# Altium schematic symbol library WCAP-AIE8.SchLib: 31 symbols
Pins are listed as number, name and electrical type; pins without a type are passive.

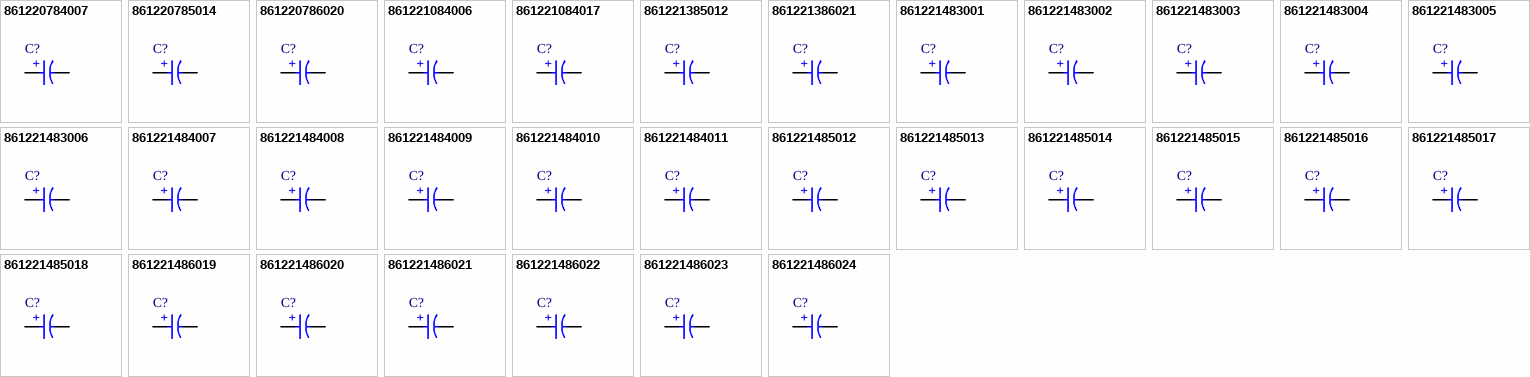
[diagram p0: symbols 861220784007 to 861221486024]

## 861220784007
designator C?, comment 3300uF  (value not drawn)
WCAP-AIE8 Aluminum Electrolytic Capacitor, Snap-In, THT, 25mm x 30mm, 3300uF, 63V; Manufacturer Part Number: 861220784007; Manufacturer: Wurth Elektronik; Dissipation Factor: 20%; Endurance: 3000h; Leakage Current: 1367.9uA; Ripple Current: 2740mA; Category: Aluminum Electrolytic Capacitors; Match Code: WCAP-AIE8; ComponentLink1Description: Website Link; ComponentLink1URL: https://www.we-online.com/redexpert/article/861220784007?ad; ComponentLink2Description: Datasheet Link; ComponentLink2URL: https://www.we-online.com/redexpert/spec/861220784007?ad; Mount: Through Hole; Min Operating Temperature: -40°C; Max Operating Temperature: 85°C; Packaging: Tray; Height: 30mm; Diameter: 25mm; Lead Pitch: 10mm; Capacitance: 3300uF; Rated Voltage (DC): 63V
footprint WCAP-AIE8_D25H30
simulation model 861220784007_3.3mF
pins: 1 P, 2 N
text: +

## 861220785014
designator C?, comment 4700uF  (value not drawn)
WCAP-AIE8 Aluminum Electrolytic Capacitor, Snap-In, THT, 30mm x 30mm, 4700uF, 63V; Manufacturer Part Number: 861220785014; Manufacturer: Wurth Elektronik; Dissipation Factor: 30%; Endurance: 3000h; Leakage Current: 1632.5uA; Ripple Current: 3700mA; Category: Aluminum Electrolytic Capacitors; Match Code: WCAP-AIE8; ComponentLink1Description: Website Link; ComponentLink1URL: https://www.we-online.com/redexpert/article/861220785014?ad; ComponentLink2Description: Datasheet Link; ComponentLink2URL: https://www.we-online.com/redexpert/spec/861220785014?ad; Mount: Through Hole; Min Operating Temperature: -40°C; Max Operating Temperature: 85°C; Packaging: Tray; Height: 30mm; Diameter: 30mm; Lead Pitch: 10mm; Capacitance: 4700uF; Rated Voltage (DC): 63V
footprint WCAP-AIE8_D30H30
simulation model 861220785014_4.7mF
pins: 1 P, 2 N
text: +

## 861220786020
designator C?, comment 6800uF  (value not drawn)
WCAP-AIE8 Aluminum Electrolytic Capacitor, Snap-In, THT, 35mm x 30mm, 6800uF, 63V; Manufacturer Part Number: 861220786020; Manufacturer: Wurth Elektronik; Dissipation Factor: 30%; Endurance: 3000h; Leakage Current: 1963.6uA; Ripple Current: 4950mA; Category: Aluminum Electrolytic Capacitors; Match Code: WCAP-AIE8; ComponentLink1Description: Website Link; ComponentLink1URL: https://www.we-online.com/redexpert/article/861220786020?ad; ComponentLink2Description: Datasheet Link; ComponentLink2URL: https://www.we-online.com/redexpert/spec/861220786020?ad; Mount: Through Hole; Min Operating Temperature: -40°C; Max Operating Temperature: 85°C; Packaging: Tray; Height: 30mm; Diameter: 35mm; Lead Pitch: 10mm; Capacitance: 6800uF; Rated Voltage (DC): 63V
footprint WCAP-AIE8_D35H30
simulation model 861220786020_6.8mF
pins: 1 P, 2 N
text: +

## 861221084006
designator C?, comment 470uF  (value not drawn)
WCAP-AIE8 Aluminum Electrolytic Capacitor, Snap-In, THT, 25mm x 25mm, 470uF, 200V; Manufacturer Part Number: 861221084006; Manufacturer: Wurth Elektronik; Dissipation Factor: 15%; Endurance: 3000h; Leakage Current: 919.8uA; Ripple Current: 1990mA; Category: Aluminum Electrolytic Capacitors; Match Code: WCAP-AIE8; ComponentLink1Description: Website Link; ComponentLink1URL: https://www.we-online.com/redexpert/article/861221084006?ad; ComponentLink2Description: Datasheet Link; ComponentLink2URL: https://www.we-online.com/redexpert/spec/861221084006?ad; Mount: Through Hole; Min Operating Temperature: -25°C; Max Operating Temperature: 85°C; Packaging: Tray; Height: 25mm; Diameter: 25mm; Lead Pitch: 10mm; Capacitance: 470uF; Rated Voltage (DC): 200V
footprint WCAP-AIE8_D25H25
simulation model 861221084006_0.47mF
pins: 1 P, 2 N
text: +

## 861221084017
designator C?, comment 1000uF  (value not drawn)
WCAP-AIE8 Aluminum Electrolytic Capacitor, Snap-In, THT, 25mm x 40mm, 1000uF, 200V; Manufacturer Part Number: 861221084017; Manufacturer: Wurth Elektronik; Dissipation Factor: 15%; Endurance: 3000h; Leakage Current: 1341.7uA; Ripple Current: 3280mA; Category: Aluminum Electrolytic Capacitors; Match Code: WCAP-AIE8; ComponentLink1Description: Website Link; ComponentLink1URL: https://www.we-online.com/redexpert/article/861221084017?ad; ComponentLink2Description: Datasheet Link; ComponentLink2URL: https://www.we-online.com/redexpert/spec/861221084017?ad; Mount: Through Hole; Min Operating Temperature: -25°C; Max Operating Temperature: 85°C; Packaging: Tray; Height: 40mm; Diameter: 25mm; Lead Pitch: 10mm; Capacitance: 1000uF; Rated Voltage (DC): 200V
footprint WCAP-AIE8_D25H40
simulation model 861221084017_1mF
pins: 1 P, 2 N
text: +

## 861221385012
designator C?, comment 220uF  (value not drawn)
WCAP-AIE8 Aluminum Electrolytic Capacitor, Snap-In, THT, 30mm x 30mm, 220uF, 400V; Manufacturer Part Number: 861221385012; Manufacturer: Wurth Elektronik; Dissipation Factor: 20%; Endurance: 3000h; Leakage Current: 890uA; Ripple Current: 1660mA; Category: Aluminum Electrolytic Capacitors; Match Code: WCAP-AIE8; ComponentLink1Description: Website Link; ComponentLink1URL: https://www.we-online.com/redexpert/article/861221385012?ad; ComponentLink2Description: Datasheet Link; ComponentLink2URL: https://www.we-online.com/redexpert/spec/861221385012?ad; Mount: Through Hole; Min Operating Temperature: -25°C; Max Operating Temperature: 85°C; Packaging: Tray; Height: 30mm; Diameter: 30mm; Lead Pitch: 10mm; Capacitance: 220uF; Rated Voltage (DC): 400V
footprint WCAP-AIE8_D30H30
simulation model 861221385012_0.22mF
pins: 1 P, 2 N
text: +

## 861221386021
designator C?, comment 470uF  (value not drawn)
WCAP-AIE8 Aluminum Electrolytic Capacitor, Snap-In, THT, 35mm x 35mm, 470uF, 400V; Manufacturer Part Number: 861221386021; Manufacturer: Wurth Elektronik; Dissipation Factor: 20%; Endurance: 3000h; Leakage Current: 1300.8uA; Ripple Current: 2710mA; Category: Aluminum Electrolytic Capacitors; Match Code: WCAP-AIE8; ComponentLink1Description: Website Link; ComponentLink1URL: https://www.we-online.com/redexpert/article/861221386021?ad; ComponentLink2Description: Datasheet Link; ComponentLink2URL: https://www.we-online.com/redexpert/spec/861221386021?ad; Mount: Through Hole; Min Operating Temperature: -25°C; Max Operating Temperature: 85°C; Packaging: Tray; Height: 35mm; Diameter: 35mm; Lead Pitch: 10mm; Capacitance: 470uF; Rated Voltage (DC): 400V
footprint WCAP-AIE8_D35H35
simulation model 861221386021_0.47mF
pins: 1 P, 2 N
text: +

## 861221483001
designator C?, comment 68uF  (value not drawn)
WCAP-AIE8 Aluminum Electrolytic Capacitor, Snap-In, THT, 22mm x 25mm, 68uF, 450V; Manufacturer Part Number: 861221483001; Manufacturer: Wurth Elektronik; Dissipation Factor: 20%; Endurance: 3000h; Leakage Current: 524.8uA; Ripple Current: 710mA; Category: Aluminum Electrolytic Capacitors; Match Code: WCAP-AIE8; ComponentLink1Description: Website Link; ComponentLink1URL: https://www.we-online.com/redexpert/article/861221483001?ad; ComponentLink2Description: Datasheet Link; ComponentLink2URL: https://www.we-online.com/redexpert/spec/861221483001?ad; Mount: Through Hole; Min Operating Temperature: -25°C; Max Operating Temperature: 85°C; Packaging: Tray; Height: 25mm; Diameter: 22mm; Lead Pitch: 10mm; Capacitance: 68uF; Rated Voltage (DC): 450V
footprint WCAP-AIE8_D22H25
simulation model 861221483001_68uF
pins: 1 P, 2 N
text: +

## 861221483002
designator C?, comment 82uF  (value not drawn)
WCAP-AIE8 Aluminum Electrolytic Capacitor, Snap-In, THT, 22mm x 25mm, 82uF, 450V; Manufacturer Part Number: 861221483002; Manufacturer: Wurth Elektronik; Dissipation Factor: 20%; Endurance: 3000h; Leakage Current: 576.3uA; Ripple Current: 860mA; Category: Aluminum Electrolytic Capacitors; Match Code: WCAP-AIE8; ComponentLink1Description: Website Link; ComponentLink1URL: https://www.we-online.com/redexpert/article/861221483002?ad; ComponentLink2Description: Datasheet Link; ComponentLink2URL: https://www.we-online.com/redexpert/spec/861221483002?ad; Mount: Through Hole; Min Operating Temperature: -25°C; Max Operating Temperature: 85°C; Packaging: Tray; Height: 25mm; Diameter: 22mm; Lead Pitch: 10mm; Capacitance: 82uF; Rated Voltage (DC): 450V
footprint WCAP-AIE8_D22H25
simulation model 861221483002_82uF
pins: 1 P, 2 N
text: +

## 861221483003
designator C?, comment 100uF  (value not drawn)
WCAP-AIE8 Aluminum Electrolytic Capacitor, Snap-In, THT, 22mm x 30mm, 100uF, 450V; Manufacturer Part Number: 861221483003; Manufacturer: Wurth Elektronik; Dissipation Factor: 20%; Endurance: 3000h; Leakage Current: 636.4uA; Ripple Current: 950mA; Category: Aluminum Electrolytic Capacitors; Match Code: WCAP-AIE8; ComponentLink1Description: Website Link; ComponentLink1URL: https://www.we-online.com/redexpert/article/861221483003?ad; ComponentLink2Description: Datasheet Link; ComponentLink2URL: https://www.we-online.com/redexpert/spec/861221483003?ad; Mount: Through Hole; Min Operating Temperature: -25°C; Max Operating Temperature: 85°C; Packaging: Tray; Height: 30mm; Diameter: 22mm; Lead Pitch: 10mm; Capacitance: 100uF; Rated Voltage (DC): 450V
footprint WCAP-AIE8_D22H30
simulation model 861221483003_0.1mF
pins: 1 P, 2 N
text: +

## 861221483004
designator C?, comment 120uF  (value not drawn)
WCAP-AIE8 Aluminum Electrolytic Capacitor, Snap-In, THT, 22mm x 35mm, 120uF, 450V; Manufacturer Part Number: 861221483004; Manufacturer: Wurth Elektronik; Dissipation Factor: 20%; Endurance: 3000h; Leakage Current: 697.2uA; Ripple Current: 1140mA; Category: Aluminum Electrolytic Capacitors; Match Code: WCAP-AIE8; ComponentLink1Description: Website Link; ComponentLink1URL: https://www.we-online.com/redexpert/article/861221483004?ad; ComponentLink2Description: Datasheet Link; ComponentLink2URL: https://www.we-online.com/redexpert/spec/861221483004?ad; Mount: Through Hole; Min Operating Temperature: -25°C; Max Operating Temperature: 85°C; Packaging: Tray; Height: 35mm; Diameter: 22mm; Lead Pitch: 10mm; Capacitance: 120uF; Rated Voltage (DC): 450V
footprint WCAP-AIE8_D22H35
simulation model 861221483004_0.12mF
pins: 1 P, 2 N
text: +

## 861221483005
designator C?, comment 150uF  (value not drawn)
WCAP-AIE8 Aluminum Electrolytic Capacitor, Snap-In, THT, 22mm x 40mm, 150uF, 450V; Manufacturer Part Number: 861221483005; Manufacturer: Wurth Elektronik; Dissipation Factor: 20%; Endurance: 3000h; Leakage Current: 779.5uA; Ripple Current: 1380mA; Category: Aluminum Electrolytic Capacitors; Match Code: WCAP-AIE8; ComponentLink1Description: Website Link; ComponentLink1URL: https://www.we-online.com/redexpert/article/861221483005?ad; ComponentLink2Description: Datasheet Link; ComponentLink2URL: https://www.we-online.com/redexpert/spec/861221483005?ad; Mount: Through Hole; Min Operating Temperature: -25°C; Max Operating Temperature: 85°C; Packaging: Tray; Height: 40mm; Diameter: 22mm; Lead Pitch: 10mm; Capacitance: 150uF; Rated Voltage (DC): 450V
footprint WCAP-AIE8_D22H40
simulation model 861221483005_0.15mF
pins: 1 P, 2 N
text: +

## 861221483006
designator C?, comment 180uF  (value not drawn)
WCAP-AIE8 Aluminum Electrolytic Capacitor, Snap-In, THT, 22mm x 45mm, 180uF, 450V; Manufacturer Part Number: 861221483006; Manufacturer: Wurth Elektronik; Dissipation Factor: 20%; Endurance: 3000h; Leakage Current: 853.9uA; Ripple Current: 1560mA; Category: Aluminum Electrolytic Capacitors; Match Code: WCAP-AIE8; ComponentLink1Description: Website Link; ComponentLink1URL: https://www.we-online.com/redexpert/article/861221483006?ad; ComponentLink2Description: Datasheet Link; ComponentLink2URL: https://www.we-online.com/redexpert/spec/861221483006?ad; Mount: Through Hole; Min Operating Temperature: -25°C; Max Operating Temperature: 85°C; Packaging: Tray; Height: 45mm; Diameter: 22mm; Lead Pitch: 10mm; Capacitance: 180uF; Rated Voltage (DC): 450V
footprint WCAP-AIE8_D22H45
simulation model 861221483006_0.18mF
pins: 1 P, 2 N
text: +

## 861221484007
designator C?, comment 100uF  (value not drawn)
WCAP-AIE8 Aluminum Electrolytic Capacitor, Snap-In, THT, 25mm x 25mm, 100uF, 450V; Manufacturer Part Number: 861221484007; Manufacturer: Wurth Elektronik; Dissipation Factor: 20%; Endurance: 3000h; Leakage Current: 636.4uA; Ripple Current: 970mA; Category: Aluminum Electrolytic Capacitors; Match Code: WCAP-AIE8; ComponentLink1Description: Website Link; ComponentLink1URL: https://www.we-online.com/redexpert/article/861221484007?ad; ComponentLink2Description: Datasheet Link; ComponentLink2URL: https://www.we-online.com/redexpert/spec/861221484007?ad; Mount: Through Hole; Min Operating Temperature: -25°C; Max Operating Temperature: 85°C; Packaging: Tray; Height: 25mm; Diameter: 25mm; Lead Pitch: 10mm; Capacitance: 100uF; Rated Voltage (DC): 450V
footprint WCAP-AIE8_D25H25
simulation model 861221484007_0.1mF
pins: 1 P, 2 N
text: +

## 861221484008
designator C?, comment 120uF  (value not drawn)
WCAP-AIE8 Aluminum Electrolytic Capacitor, Snap-In, THT, 25mm x 30mm, 120uF, 450V; Manufacturer Part Number: 861221484008; Manufacturer: Wurth Elektronik; Dissipation Factor: 20%; Endurance: 3000h; Leakage Current: 697.2uA; Ripple Current: 1170mA; Category: Aluminum Electrolytic Capacitors; Match Code: WCAP-AIE8; ComponentLink1Description: Website Link; ComponentLink1URL: https://www.we-online.com/redexpert/article/861221484008?ad; ComponentLink2Description: Datasheet Link; ComponentLink2URL: https://www.we-online.com/redexpert/spec/861221484008?ad; Mount: Through Hole; Min Operating Temperature: -25°C; Max Operating Temperature: 85°C; Packaging: Tray; Height: 30mm; Diameter: 25mm; Lead Pitch: 10mm; Capacitance: 120uF; Rated Voltage (DC): 450V
footprint WCAP-AIE8_D25H30
simulation model 861221484008_0.12mF
pins: 1 P, 2 N
text: +

## 861221484009
designator C?, comment 150uF  (value not drawn)
WCAP-AIE8 Aluminum Electrolytic Capacitor, Snap-In, THT, 25mm x 30mm, 150uF, 450V; Manufacturer Part Number: 861221484009; Manufacturer: Wurth Elektronik; Dissipation Factor: 20%; Endurance: 3000h; Leakage Current: 779.5uA; Ripple Current: 1310mA; Category: Aluminum Electrolytic Capacitors; Match Code: WCAP-AIE8; ComponentLink1Description: Website Link; ComponentLink1URL: https://www.we-online.com/redexpert/article/861221484009?ad; ComponentLink2Description: Datasheet Link; ComponentLink2URL: https://www.we-online.com/redexpert/spec/861221484009?ad; Mount: Through Hole; Min Operating Temperature: -25°C; Max Operating Temperature: 85°C; Packaging: Tray; Height: 30mm; Diameter: 25mm; Lead Pitch: 10mm; Capacitance: 150uF; Rated Voltage (DC): 450V
footprint WCAP-AIE8_D25H30
simulation model 861221484009_0.15mF
pins: 1 P, 2 N
text: +

## 861221484010
designator C?, comment 180uF  (value not drawn)
WCAP-AIE8 Aluminum Electrolytic Capacitor, Snap-In, THT, 25mm x 35mm, 180uF, 450V; Manufacturer Part Number: 861221484010; Manufacturer: Wurth Elektronik; Dissipation Factor: 20%; Endurance: 3000h; Leakage Current: 853.9uA; Ripple Current: 1510mA; Category: Aluminum Electrolytic Capacitors; Match Code: WCAP-AIE8; ComponentLink1Description: Website Link; ComponentLink1URL: https://www.we-online.com/redexpert/article/861221484010?ad; ComponentLink2Description: Datasheet Link; ComponentLink2URL: https://www.we-online.com/redexpert/spec/861221484010?ad; Mount: Through Hole; Min Operating Temperature: -25°C; Max Operating Temperature: 85°C; Packaging: Tray; Height: 35mm; Diameter: 25mm; Lead Pitch: 10mm; Capacitance: 180uF; Rated Voltage (DC): 450V
footprint WCAP-AIE8_D25H35
simulation model 861221484010_0.18mF
pins: 1 P, 2 N
text: +

## 861221484011
designator C?, comment 220uF  (value not drawn)
WCAP-AIE8 Aluminum Electrolytic Capacitor, Snap-In, THT, 25mm x 40mm, 220uF, 450V; Manufacturer Part Number: 861221484011; Manufacturer: Wurth Elektronik; Dissipation Factor: 20%; Endurance: 3000h; Leakage Current: 944uA; Ripple Current: 2020mA; Category: Aluminum Electrolytic Capacitors; Match Code: WCAP-AIE8; ComponentLink1Description: Website Link; ComponentLink1URL: https://www.we-online.com/redexpert/article/861221484011?ad; ComponentLink2Description: Datasheet Link; ComponentLink2URL: https://www.we-online.com/redexpert/spec/861221484011?ad; Mount: Through Hole; Min Operating Temperature: -25°C; Max Operating Temperature: 85°C; Packaging: Tray; Height: 40mm; Diameter: 25mm; Lead Pitch: 10mm; Capacitance: 220uF; Rated Voltage (DC): 450V
footprint WCAP-AIE8_D25H40
simulation model 861221484011_0.22mF
pins: 1 P, 2 N
text: +

## 861221485012
designator C?, comment 120uF  (value not drawn)
WCAP-AIE8 Aluminum Electrolytic Capacitor, Snap-In, THT, 30mm x 25mm, 120uF, 450V; Manufacturer Part Number: 861221485012; Manufacturer: Wurth Elektronik; Dissipation Factor: 20%; Endurance: 3000h; Leakage Current: 697.2uA; Ripple Current: 1210mA; Category: Aluminum Electrolytic Capacitors; Match Code: WCAP-AIE8; ComponentLink1Description: Website Link; ComponentLink1URL: https://www.we-online.com/redexpert/article/861221485012?ad; ComponentLink2Description: Datasheet Link; ComponentLink2URL: https://www.we-online.com/redexpert/spec/861221485012?ad; Mount: Through Hole; Min Operating Temperature: -25°C; Max Operating Temperature: 85°C; Packaging: Tray; Height: 25mm; Diameter: 30mm; Lead Pitch: 10mm; Capacitance: 120uF; Rated Voltage (DC): 450V
footprint WCAP-AIE8_D30H25
simulation model 861221485012_0.12mF
pins: 1 P, 2 N
text: +

## 861221485013
designator C?, comment 150uF  (value not drawn)
WCAP-AIE8 Aluminum Electrolytic Capacitor, Snap-In, THT, 30mm x 25mm, 150uF, 450V; Manufacturer Part Number: 861221485013; Manufacturer: Wurth Elektronik; Dissipation Factor: 20%; Endurance: 3000h; Leakage Current: 779.5uA; Ripple Current: 1340mA; Category: Aluminum Electrolytic Capacitors; Match Code: WCAP-AIE8; ComponentLink1Description: Website Link; ComponentLink1URL: https://www.we-online.com/redexpert/article/861221485013?ad; ComponentLink2Description: Datasheet Link; ComponentLink2URL: https://www.we-online.com/redexpert/spec/861221485013?ad; Mount: Through Hole; Min Operating Temperature: -25°C; Max Operating Temperature: 85°C; Packaging: Tray; Height: 25mm; Diameter: 30mm; Lead Pitch: 10mm; Capacitance: 150uF; Rated Voltage (DC): 450V
footprint WCAP-AIE8_D30H25
simulation model 861221485013_0.15mF
pins: 1 P, 2 N
text: +

## 861221485014
designator C?, comment 180uF  (value not drawn)
WCAP-AIE8 Aluminum Electrolytic Capacitor, Snap-In, THT, 30mm x 30mm, 180uF, 450V; Manufacturer Part Number: 861221485014; Manufacturer: Wurth Elektronik; Dissipation Factor: 20%; Endurance: 3000h; Leakage Current: 853.9uA; Ripple Current: 1450mA; Category: Aluminum Electrolytic Capacitors; Match Code: WCAP-AIE8; ComponentLink1Description: Website Link; ComponentLink1URL: https://www.we-online.com/redexpert/article/861221485014?ad; ComponentLink2Description: Datasheet Link; ComponentLink2URL: https://www.we-online.com/redexpert/spec/861221485014?ad; Mount: Through Hole; Min Operating Temperature: -25°C; Max Operating Temperature: 85°C; Packaging: Tray; Height: 30mm; Diameter: 30mm; Lead Pitch: 10mm; Capacitance: 180uF; Rated Voltage (DC): 450V
footprint WCAP-AIE8_D30H30
simulation model 861221485014_0.18mF
pins: 1 P, 2 N
text: +

## 861221485015
designator C?, comment 220uF  (value not drawn)
WCAP-AIE8 Aluminum Electrolytic Capacitor, Snap-In, THT, 30mm x 30mm, 220uF, 450V; Manufacturer Part Number: 861221485015; Manufacturer: Wurth Elektronik; Dissipation Factor: 20%; Endurance: 3000h; Leakage Current: 944uA; Ripple Current: 1910mA; Category: Aluminum Electrolytic Capacitors; Match Code: WCAP-AIE8; ComponentLink1Description: Website Link; ComponentLink1URL: https://www.we-online.com/redexpert/article/861221485015?ad; ComponentLink2Description: Datasheet Link; ComponentLink2URL: https://www.we-online.com/redexpert/spec/861221485015?ad; Mount: Through Hole; Min Operating Temperature: -25°C; Max Operating Temperature: 85°C; Packaging: Tray; Height: 30mm; Diameter: 30mm; Lead Pitch: 10mm; Capacitance: 220uF; Rated Voltage (DC): 450V
footprint WCAP-AIE8_D30H30
simulation model 861221485015_0.22mF
pins: 1 P, 2 N
text: +

## 861221485016
designator C?, comment 270uF  (value not drawn)
WCAP-AIE8 Aluminum Electrolytic Capacitor, Snap-In, THT, 30mm x 35mm, 270uF, 450V; Manufacturer Part Number: 861221485016; Manufacturer: Wurth Elektronik; Dissipation Factor: 20%; Endurance: 3000h; Leakage Current: 1045.8uA; Ripple Current: 2290mA; Category: Aluminum Electrolytic Capacitors; Match Code: WCAP-AIE8; ComponentLink1Description: Website Link; ComponentLink1URL: https://www.we-online.com/redexpert/article/861221485016?ad; ComponentLink2Description: Datasheet Link; ComponentLink2URL: https://www.we-online.com/redexpert/spec/861221485016?ad; Mount: Through Hole; Min Operating Temperature: -25°C; Max Operating Temperature: 85°C; Packaging: Tray; Height: 35mm; Diameter: 30mm; Lead Pitch: 10mm; Capacitance: 270uF; Rated Voltage (DC): 450V
footprint WCAP-AIE8_D30H35
simulation model 861221485016_0.27mF
pins: 1 P, 2 N
text: +

## 861221485017
designator C?, comment 330uF  (value not drawn)
WCAP-AIE8 Aluminum Electrolytic Capacitor, Snap-In, THT, 30mm x 40mm, 330uF, 450V; Manufacturer Part Number: 861221485017; Manufacturer: Wurth Elektronik; Dissipation Factor: 20%; Endurance: 3000h; Leakage Current: 1156.1uA; Ripple Current: 2650mA; Category: Aluminum Electrolytic Capacitors; Match Code: WCAP-AIE8; ComponentLink1Description: Website Link; ComponentLink1URL: https://www.we-online.com/redexpert/article/861221485017?ad; ComponentLink2Description: Datasheet Link; ComponentLink2URL: https://www.we-online.com/redexpert/spec/861221485017?ad; Mount: Through Hole; Min Operating Temperature: -25°C; Max Operating Temperature: 85°C; Packaging: Tray; Height: 40mm; Diameter: 30mm; Lead Pitch: 10mm; Capacitance: 330uF; Rated Voltage (DC): 450V
footprint WCAP-AIE8_D30H40
simulation model 861221485017_0.33mF
pins: 1 P, 2 N
text: +

## 861221485018
designator C?, comment 390uF  (value not drawn)
WCAP-AIE8 Aluminum Electrolytic Capacitor, Snap-In, THT, 30mm x 45mm, 390uF, 450V; Manufacturer Part Number: 861221485018; Manufacturer: Wurth Elektronik; Dissipation Factor: 20%; Endurance: 3000h; Leakage Current: 1256.8uA; Ripple Current: 3030mA; Category: Aluminum Electrolytic Capacitors; Match Code: WCAP-AIE8; ComponentLink1Description: Website Link; ComponentLink1URL: https://www.we-online.com/redexpert/article/861221485018?ad; ComponentLink2Description: Datasheet Link; ComponentLink2URL: https://www.we-online.com/redexpert/spec/861221485018?ad; Mount: Through Hole; Min Operating Temperature: -25°C; Max Operating Temperature: 85°C; Packaging: Tray; Height: 45mm; Diameter: 30mm; Lead Pitch: 10mm; Capacitance: 390uF; Rated Voltage (DC): 450V
footprint WCAP-AIE8_D30H45
simulation model 861221485018_0.39mF
pins: 1 P, 2 N
text: +

## 861221486019
designator C?, comment 220uF  (value not drawn)
WCAP-AIE8 Aluminum Electrolytic Capacitor, Snap-In, THT, 35mm x 25mm, 220uF, 450V; Manufacturer Part Number: 861221486019; Manufacturer: Wurth Elektronik; Dissipation Factor: 20%; Endurance: 3000h; Leakage Current: 944uA; Ripple Current: 1920mA; Category: Aluminum Electrolytic Capacitors; Match Code: WCAP-AIE8; ComponentLink1Description: Website Link; ComponentLink1URL: https://www.we-online.com/redexpert/article/861221486019?ad; ComponentLink2Description: Datasheet Link; ComponentLink2URL: https://www.we-online.com/redexpert/spec/861221486019?ad; Mount: Through Hole; Min Operating Temperature: -25°C; Max Operating Temperature: 85°C; Packaging: Tray; Height: 25mm; Diameter: 35mm; Lead Pitch: 10mm; Capacitance: 220uF; Rated Voltage (DC): 450V
footprint WCAP-AIE8_D35H25
simulation model 861221486019_0.22mF
pins: 1 P, 2 N
text: +

## 861221486020
designator C?, comment 270uF  (value not drawn)
WCAP-AIE8 Aluminum Electrolytic Capacitor, Snap-In, THT, 35mm x 30mm, 270uF, 450V; Manufacturer Part Number: 861221486020; Manufacturer: Wurth Elektronik; Dissipation Factor: 20%; Endurance: 3000h; Leakage Current: 1045.8uA; Ripple Current: 2410mA; Category: Aluminum Electrolytic Capacitors; Match Code: WCAP-AIE8; ComponentLink1Description: Website Link; ComponentLink1URL: https://www.we-online.com/redexpert/article/861221486020?ad; ComponentLink2Description: Datasheet Link; ComponentLink2URL: https://www.we-online.com/redexpert/spec/861221486020?ad; Mount: Through Hole; Min Operating Temperature: -25°C; Max Operating Temperature: 85°C; Packaging: Tray; Height: 30mm; Diameter: 35mm; Lead Pitch: 10mm; Capacitance: 270uF; Rated Voltage (DC): 450V
footprint WCAP-AIE8_D35H30
simulation model 861221486020_0.27mF
pins: 1 P, 2 N
text: +

## 861221486021
designator C?, comment 330uF  (value not drawn)
WCAP-AIE8 Aluminum Electrolytic Capacitor, Snap-In, THT, 35mm x 35mm, 330uF, 450V; Manufacturer Part Number: 861221486021; Manufacturer: Wurth Elektronik; Dissipation Factor: 20%; Endurance: 3000h; Leakage Current: 1156.1uA; Ripple Current: 2630mA; Category: Aluminum Electrolytic Capacitors; Match Code: WCAP-AIE8; ComponentLink1Description: Website Link; ComponentLink1URL: https://www.we-online.com/redexpert/article/861221486021?ad; ComponentLink2Description: Datasheet Link; ComponentLink2URL: https://www.we-online.com/redexpert/spec/861221486021?ad; Mount: Through Hole; Min Operating Temperature: -25°C; Max Operating Temperature: 85°C; Packaging: Tray; Height: 35mm; Diameter: 35mm; Lead Pitch: 10mm; Capacitance: 330uF; Rated Voltage (DC): 450V
footprint WCAP-AIE8_D35H35
simulation model 861221486021_0.33mF
pins: 1 P, 2 N
text: +

## 861221486022
designator C?, comment 390uF  (value not drawn)
WCAP-AIE8 Aluminum Electrolytic Capacitor, Snap-In, THT, 35mm x 40mm, 390uF, 450V; Manufacturer Part Number: 861221486022; Manufacturer: Wurth Elektronik; Dissipation Factor: 20%; Endurance: 3000h; Leakage Current: 1256.8uA; Ripple Current: 3150mA; Category: Aluminum Electrolytic Capacitors; Match Code: WCAP-AIE8; ComponentLink1Description: Website Link; ComponentLink1URL: https://www.we-online.com/redexpert/article/861221486022?ad; ComponentLink2Description: Datasheet Link; ComponentLink2URL: https://www.we-online.com/redexpert/spec/861221486022?ad; Mount: Through Hole; Min Operating Temperature: -25°C; Max Operating Temperature: 85°C; Packaging: Tray; Height: 40mm; Diameter: 35mm; Lead Pitch: 10mm; Capacitance: 390uF; Rated Voltage (DC): 450V
footprint WCAP-AIE8_D35H40
simulation model 861221486022_0.39mF
pins: 1 P, 2 N
text: +

## 861221486023
designator C?, comment 470uF  (value not drawn)
WCAP-AIE8 Aluminum Electrolytic Capacitor, Snap-In, THT, 35mm x 45mm, 470uF, 450V; Manufacturer Part Number: 861221486023; Manufacturer: Wurth Elektronik; Dissipation Factor: 20%; Endurance: 3000h; Leakage Current: 1379.7uA; Ripple Current: 3310mA; Category: Aluminum Electrolytic Capacitors; Match Code: WCAP-AIE8; ComponentLink1Description: Website Link; ComponentLink1URL: https://www.we-online.com/redexpert/article/861221486023?ad; ComponentLink2Description: Datasheet Link; ComponentLink2URL: https://www.we-online.com/redexpert/spec/861221486023?ad; Mount: Through Hole; Min Operating Temperature: -25°C; Max Operating Temperature: 85°C; Packaging: Tray; Height: 45mm; Diameter: 35mm; Lead Pitch: 10mm; Capacitance: 470uF; Rated Voltage (DC): 450V
footprint WCAP-AIE8_D35H45
simulation model 861221486023_0.47mF
pins: 1 P, 2 N
text: +

## 861221486024
designator C?, comment 560uF  (value not drawn)
WCAP-AIE8 Aluminum Electrolytic Capacitor, Snap-In, THT, 35mm x 50mm, 560uF, 450V; Manufacturer Part Number: 861221486024; Manufacturer: Wurth Elektronik; Dissipation Factor: 20%; Endurance: 3000h; Leakage Current: 1506uA; Ripple Current: 3580mA; Category: Aluminum Electrolytic Capacitors; Match Code: WCAP-AIE8; ComponentLink1Description: Website Link; ComponentLink1URL: https://www.we-online.com/redexpert/article/861221486024?ad; ComponentLink2Description: Datasheet Link; ComponentLink2URL: https://www.we-online.com/redexpert/spec/861221486024?ad; Mount: Through Hole; Min Operating Temperature: -25°C; Max Operating Temperature: 85°C; Packaging: Tray; Height: 50mm; Diameter: 35mm; Lead Pitch: 10mm; Capacitance: 560uF; Rated Voltage (DC): 450V
footprint WCAP-AIE8_D35H50
simulation model 861221486024_0.56mF
pins: 1 P, 2 N
text: +